# Altium schematic symbol library 1.0MM.SchLib: 1 symbol
Pins are listed as number, name and electrical type; pins without a type are passive.

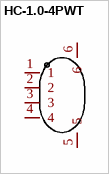
[diagram p0: symbol HC-1.0-4PWT]

## HC-1.0-4PWT
designator CN??  (value not drawn)
Manufacturer: HCTL(华灿天禄); Add into BOM: yes; Pins Structure: 1x4P; Pitch: 1mm; Number of PINs Per Row: 4; Current Rating (Max): 1A; Name: HC-1.0-4PWT; Symbol: HC-1.0-4PWT; Device: HC-1.0-4PWT; LCSC Part Name: 1x4P 间距:1mm 卧贴; Supplier Part: C2845363; Manufacturer Part: HC-1.0-4PWT; Supplier Footprint: SMD,P=1mm,卧贴; JLCPCB Part Class: Extended Part; Datasheet: https://atta.szlcsc.com/upload/public/pdf/source/20230707/696F47DD5B3D5495B4AB8BCE302E8A84.pdf; Supplier: LCSC; Convert to PCB: yes; Mounting Style: 卧贴; Reference Series: -; Number of Pins: 4P; Number of Rows: 1; Row Spacing: -; Contact Material: 磷青铜; Contact Plating: 锡; Operating Temperature Range: -25℃~+85℃
footprint CONN-SMD_4P-P1.00_HCTL_HC-1.0-4PWT
3D model CONN-SMD_4P-P1.00_HCTL_HC-1.0-4PWT
pins: 1, 2, 3, 4, 5, 6